# Altium footprint library SOT23-5P95_275X110L40X32N.PcbLib: 1 footprints
Each footprint in its own frame and in the unit in brackets; x right, y up, seen from the top. Pads: shape width x height; smd on the part's side, far side on the other; paste and mask are expansions set on the pad; w line width, h text height; cw(c..) or ccw(c..) is an arc to the next point about the centre after c.
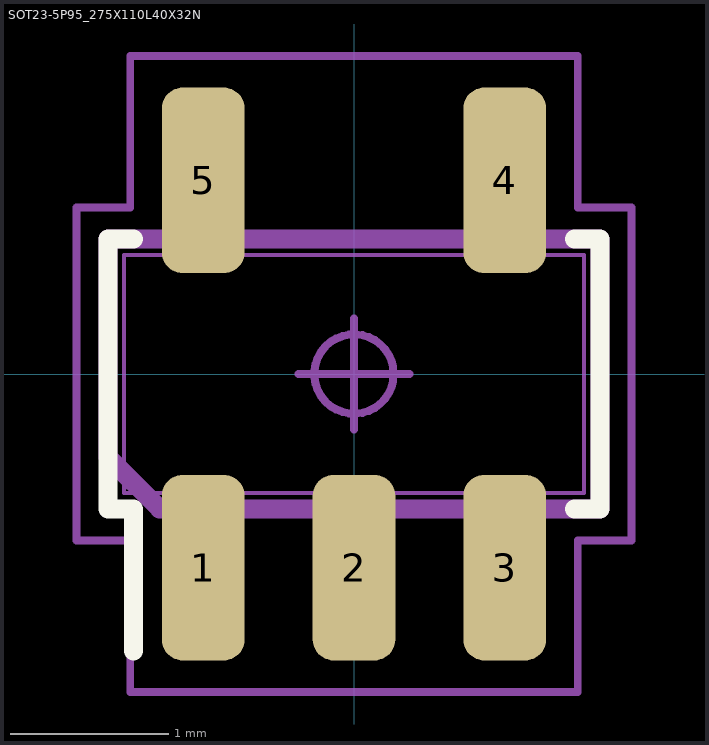
[diagram p0: the footprint, top view; thin cyan lines are the x and y axes]

## SOT23-5P95_275X110L40X32N [mm] "Small Outline Transistor (SOT23), 0.95 mm pitch; 5 pin, 2.90 mm L X 1.50 mm W X 1.10 mm H body"
height 1.1
pads (5):
  rrect50% 0.52x1.17 smd: 1(-0.95,-1.22) 2(0,-1.22) 3(0.95,-1.22) 4(0.95,1.22) 5(-0.95,1.22)
Top Overlay:
  lines w0.12: -1.39,-1.745 -1.39,-0.85 -1.55,-0.85 -1.55,0.85 -1.39,0.85 ; 1.39,-0.85 1.55,-0.85 1.55,0.85 1.39,0.85
Mechanical 3:
  lines w0.12: -1.55,-0.525 -1.55,0.85 1.55,0.85 1.55,-0.85 -1.225,-0.85 -1.55,-0.525
Mechanical 5:
  lines w0.025: -1.45,-0.75 1.45,-0.75 1.45,0.75 -1.45,0.75 -1.45,-0.75 ; -1.112,-1.375 -1.112,-0.975 -0.787,-0.975 -0.787,-1.375 -1.112,-1.375 ; -1.112,0.975 -1.112,1.375 -0.787,1.375 -0.787,0.975 -1.112,0.975 ; -0.162,-1.375 -0.162,-0.975 0.162,-0.975 0.162,-1.375 -0.162,-1.375 ; 0.787,-1.375 0.787,-0.975 1.112,-0.975 1.112,-1.375 0.787,-1.375 ; 0.787,0.975 0.787,1.375 1.112,1.375 1.112,0.975 0.787,0.975
Mechanical 7:
  circle w0.05: c0,0 r0.25
  lines w0.05: -0.35,0 0.35,0 ; 0,-0.35 0,0.35 ; -1.75,-1.05 -1.41,-1.05 -1.41,-2.005 1.41,-2.005 1.41,-1.05 1.75,-1.05 1.75,1.05 1.41,1.05 1.41,2.005 -1.41,2.005 -1.41,1.05 -1.75,1.05 -1.75,-1.05
Mechanical 9:
  text "'.Designator'" at -6.498,-0.084 h1.02
3D body: height 2, standoff 0.05, extent -1.75,-2 1.75,2
3D body "SOT23-5P95_275X110L40X32.STEP": height 1.1, standoff 0, extent -1.45,-1.375 1.45,1.375
3D body: height 1.04, standoff 0, extent -1.75,-2.005 1.75,2.005